# Altium schematic symbol library Conn_Molex_22-05-7045_eec.SchLib: 1 symbol
Pins are listed as number, name and electrical type; pins without a type are passive.

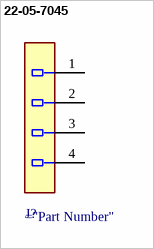
[diagram p0: symbol 22-05-7045]

## 22-05-7045
designator J?  (value not drawn)
pins: 1, 2, 3, 4